# EAGLE library part MCP1727 (library HedgehogLib)
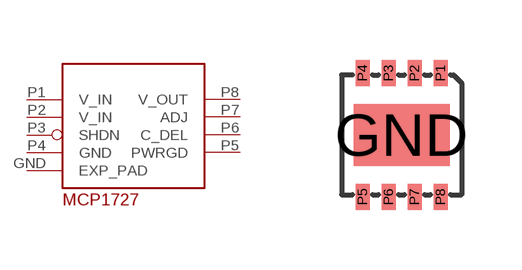
[diagram p0: symbol with the pads of MCP_DFN_3X3X0.9; footprint MCP_DFN_3X3X0.9]

Designator prefix -

## MCP1727  [MCP_DFN_3X3X0.9]
GND  EXP_PAD
P1  V_IN
P2  V_IN
P3  SHDN
P4  GND
P5  PWRGD
P6  C_DEL
P7  ADJ
P8  V_OUT

## Footprint MCP_DFN_3X3X0.9 (pad centres in mm)
smd 2.4 x 1.55: GND 0,-1.55
smd 0.35 x 0.65: P1 0.975,0; P2 0.325,0; P3 -0.325,0; P4 -0.975,0; P5 -0.975,-3.1; P6 -0.325,-3.1; P7 0.325,-3.1; P8 0.975,-3.1